# Altium schematic symbol library ecubelib.SchLib: 9 symbols
Pins are listed as number, name and electrical type; pins without a type are passive.

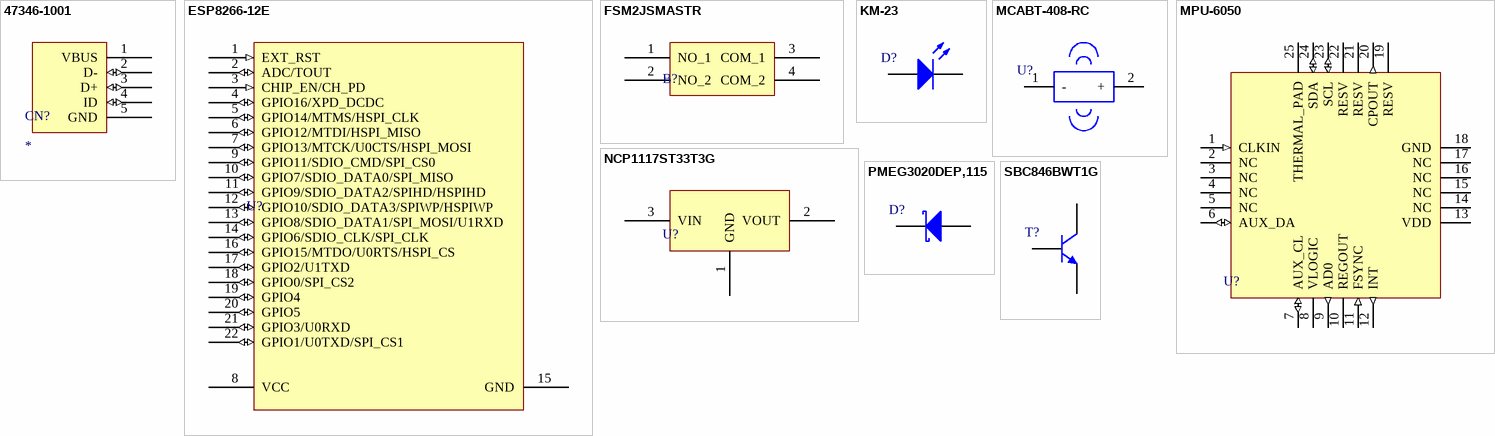
[diagram p0: symbols 47346-1001 to SBC846BWT1G]

## 47346-1001
designator CN?
MOLEX - 47346-1001 - MULTIPOLE CONNECTOR Conector USB, Micro USB Tipo B, USB 2.0 Montaje Superficial,; ComponentLink1Description: Farnell; ComponentLink1URL: https://es.farnell.com/molex/47346-1001/conector-micro-usb-tipo-b-hembra/dp/2782045?st=Conector%20USB,%20Micro%20USB%20Tipo%20B
footprint 47346-1001 (USB Tipo B Montaje Superficial)
pins: 1 VBUS (power), 2 D- (io), 3 D+ (io), 4 ID (io), 5 GND (power)

## ESP8266-12E
designator U?
footprint ESP8266-12E
pins: 1 EXT_RST (in), 2 ADC/TOUT (io), 3 CHIP_EN/CH_PD (in), 4 GPIO16/XPD_DCDC (io), 5 GPIO14/MTMS/HSPI_CLK (io), 6 GPIO12/MTDI/HSPI_MISO (io), 7 GPIO13/MTCK/U0CTS/HSPI_MOSI (io), 8 VCC (power), 9 GPIO11/SDIO_CMD/SPI_CS0 (io), 10 GPIO7/SDIO_DATA0/SPI_MISO (io), 11 GPIO9/SDIO_DATA2/SPIHD/HSPIHD (io), 12 GPIO10/SDIO_DATA3/SPIWP/HSPIWP (io), 13 GPIO8/SDIO_DATA1/SPI_MOSI/U1RXD (io), 14 GPIO6/SDIO_CLK/SPI_CLK (io), 15 GND (power), 16 GPIO15/MTDO/U0RTS/HSPI_CS (io), 17 GPIO2/U1TXD (io), 18 GPIO0/SPI_CS2 (io), 19 GPIO4 (io), 20 GPIO5 (io), 21 GPIO3/U0RXD (io), 22 GPIO1/U0TXD/SPI_CS1 (io)

## FSM2JSMASTR
designator B?
TE Connectivity - Interruptor Táctil, Montaje Superficial (SMD); ComponentLink1Description: farnell; ComponentLink1URL: https://es.farnell.com/alcoswitch-te-connectivity/fsm2jsmastr/interruptor-t-ctil-spst-0-05a/dp/2610941?krypto=STQKwvVYAPccPvWo2qKFm%2B2gHuVF7WkaqIiu7Dm0cJ5iCIeV7DHhPViRfCOgoFsJStXtod%2BnIQ%2BYkMVEvW6iM3AuzhepTn6uOw1UVwc7VB8KUrNLl0uQiR%2Bt35da8c9%2BQU171xU6PFtEc8EnsSVD6zTrAoZNeFTntAPThe1lSw75SwgbO5cQ33JndyglwNSD%2Fmpse8Gtvc2qmuIyzAgV9svHZkncDZZX6ZXbcKP216NPBEjbrtNYbKi2SeLDw4XeR8vtbf5NJKVxMUwbBhIrG2GTfYXybkb4t0M%2BFUX2Mjpm2Pqiy7%2FaHyLXsF%2F6JqWeJ%2FtTnNjkvf4o7u918wSV9RxDYtXvBiLcNJGrHbUuu6%2BAwcACzT8Mk6xWTk1NrmLNmfrigBPTmYlqdrRkSyqTCN5s9fVyopuyy4jhDrGN6PxrQet12eg7oAfq92u%2FGproWwHxsaTab23LGvFEnuMkIb5ATL7w%2Fr2VOeHmcwkXp7E%3D&ddkey=https%3Aes-ES%2FElement14_Spain%2Fsearch
footprint BUTTON_SMD
pins: 1 NO_1, 2 NO_2, 3 COM_1, 4 COM_2

## KM-23
designator D?
Kingbright - LED, SOT-23; ComponentLink1Description: farnell -RED; ComponentLink1URL: https://es.farnell.com/kingbright/km-23id-f/led-red-sot-23-smd/dp/2099216?st=KM-23ID; ComponentLink2Description: farnell-Green; ComponentLink2URL: https://es.farnell.com/kingbright/km-23sgd-f/led-green-sot-23-smd/dp/2099217?st=KM-23
footprint SOT-23
pins: 1 A, 3 K

## MCABT-408-RC
designator U?
ransductor, 1 V a 3 V, 85 dBA, Sirena, 70 mA; ComponentLink1Description: farnell; ComponentLink1URL: https://es.farnell.com/multicomp/mcabt-408-rc/ac-stico-electro-mech-audio-1/dp/2361105?krypto=Kzr7701dNdWkobLwazw2WAHmNHziskZrQMg7S%2Faf%2BaL%2F%2Bj%2FkWh1M3S1k%2FYSHSKSx0MzERa16wH8IxUPYeDKx2PmCEW9b7Qq2dWm4YJR83SHnond9nZgPFyrqEJusaoJIK60fC%2FoQdI36P39N2BQPzNsuueVDbqXwGAOKtHeDF30EVb%2FMeWA5wOoM2bNdaZFSgNjAKDp4mZigEnbiecpx7MGL6JOzzhP9BWUiYbys6ks5dt9LMNmTnpFtdjo7H2akCj%2F%2BfLNG71ArvMaoxZ0WMv4hKuovOAWfA3NHFC9HmqzoIwqKqKgSbKZowJ%2Btqn8YlCHLgv9T7vbfNqK3ZjJzUnVd%2FT%2BsNsbTS0FSkhssYu9EDD5ZGkWROWS0H93J6TpgHhXKvnZj%2BSUvRf0Y%2Bf3ZsPXOKqdIdoKAc%2FpA98XWUfDfcYNhjP%2Fdf3fuxTewHmiKE8rVjXfHvkQUwmS1KThmixSSWsU6BPdfoeHtQ48EBKM%3D&ddkey=https%3Aes-ES%2FElement14_Spain%2Fsearch
footprint MCABT-408-RC
pins: 1 -, 2 +

## MPU-6050
designator U?
INVENSENSE - Módulo MEMS, Giroscopio de Tres Ejes, Acelerómetro de Tres Ejes; ComponentLink1Description: farnell; ComponentLink1URL: https://es.farnell.com/invensense/mpu-6050/giroscop-aceler-m-6-ejes-i2c-qfn/dp/1864742?st=MPU-6050
footprint QFN50P400X400X95-25N
pins: 1 CLKIN (in), 2 NC, 3 NC, 4 NC, 5 NC, 6 AUX_DA (io), 7 AUX_CL (io), 8 VLOGIC (power), 9 AD0 (out), 10 REGOUT, 11 FSYNC (in), 12 INT (out), 13 VDD (power), 14 NC, 15 NC, 16 NC, 17 NC, 18 GND (power), 19 RESV, 20 CPOUT (out), 21 RESV, 22 RESV, 23 SCL (io), 24 SDA (io), 25 THERMAL_PAD

## NCP1117ST33T3G
designator U?
ON SEMICONDUCTOR  - Regulador de Tensión Fija LDO 3.3V 1A; ComponentLink1Description: farnell; ComponentLink1URL: https://es.farnell.com/on-semiconductor/ncp1117st33t3g/ic-linear-voltage-regulator/dp/1652366?st=NCP1117ST33T3G
footprint SOT-223-3
pins: 1 GND, 2 VOUT, 3 VIN

## PMEG3020DEP,115
designator D?
NEXPERIA - Rectificador Schottky, 30 V, 2 A; ComponentLink1Description: farnell; ComponentLink1URL: https://es.farnell.com/nexperia/pmeg3020dep-115/diodo-schott-rect-30v-2a-sod128/dp/1972721?st=PMEG3020DEP,115
footprint SOD-128
pins: 1 K, 2 A

## SBC846BWT1G
designator T?
ON SEMICONDUCTOR - SBC846BWT1G - TRANSISTOR, BIPOL, NPN, 65V; ComponentLink1Description: farnell; ComponentLink1URL: https://es.farnell.com/on-semiconductor/sbc846bwt1g/transistor-bipolar-npn-65-v/dp/2533346?st=SBC846BWT1G
footprint SOT-323
pins: 1 B, 2 E, 3 C